# Altium schematic symbol library BGT24LTR22.SchLib: 1 symbol
Pins are listed as number, name and electrical type; pins without a type are passive.

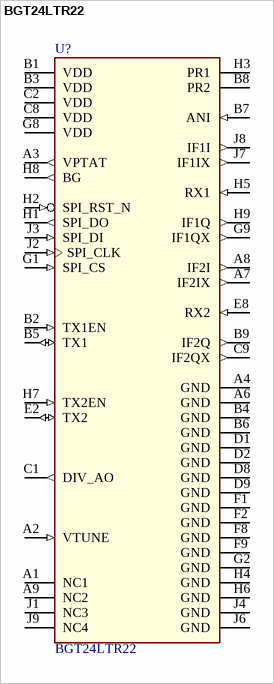
[diagram p0: symbol BGT24LTR22]

## BGT24LTR22
designator U?
Low Power Multichannel 24GHz Radar MMIC; Manufacturer: Infineon Technologies; Manufacturer Order Number: BGT24LTR22; PackageReference: PG-WFWLB-52-3
footprint BGA52C40P9X9_363X363X80-V (BGA,0.40mm pitch,square;52 pin,9 columns X 9 rows,3.63mm X 3.63mm X 0.80mm H)
pins: A1 NC1 "No Connection", A2 VTUNE (in) "VCO Frequency Tuning Input", A3 VPTAT (out) "PTAT Voltage Source Output", A4 GND (power) "Ground", A6 GND (power) "Ground", A7 IF2IX (out) "Complementary in-Phase Downconverter IF Output – Receiver 2", A8 IF2I (out) "Complementary in-Phase Downconverter IF Output – Receiver 2", A9 NC2 "No Connection", B1 VDD (power) "DC Supply Voltage", B2 TX1EN (in) "Enable Transmitter 1", B3 VDD (power) "DC Supply Voltage", B4 GND (power) "Ground", B5 TX1 (io) "Bidirectional RF I/O RF Output – Transmitter 1/LO Input 1", B6 GND (power) "Ground", B7 ANI (in) "Analog Input for Testing", B8 PR2 "Mode Select - Pin 2", B9 IF2Q (out) "Complementary Quadrature Phase Downconverter IF Output - Receiver 2", C1 DIV_AO (out) "Frequency Divider Output", C2 VDD (power) "DC Supply Voltage", C8 VDD (power) "DC Supply Voltage", C9 IF2QX (out) "Complementary Quadrature Phase Downconverter IF Output - Receiver 2", D1 GND (power) "Ground", D2 GND (power) "Ground", D8 GND (power) "Ground", D9 GND (power) "Ground", E2 TX2 (io) "Bidirectional RF I/O RF Output – Transmitter 2/LO Input 2", E8 RX2 (in) "RF Input - Receiver 2", F1 GND (power) "Ground", F2 GND (power) "Ground", F8 GND (power) "Ground", F9 GND (power) "Ground", G1 SPI_CS (in) "SPI Chip Select (spi_cs_i)", G2 GND (power) "Ground", G8 VDD (power) "DC Supply Voltage", G9 IF1QX (out) "Complementary Quadrature Phase Downconverter IF Output - Receiver 1", H1 SPI_DO (out) "SPI Data Out (spi_do_o)", H2 SPI_RST_N (in) "SPI Reset", H3 PR1 "Mode Select – Pin 1", H4 GND (power) "Ground", H5 RX1 (in) "RF Input - Receiver 1", H6 GND (power) "Ground", H7 TX2EN (in) "Enable Transmitter 2", H8 BG (out) "Bandgap Voltage Output", H9 IF1Q (out) "Complementary Quadrature Phase Downconverter IF Output - Receiver 1", J1 NC3 "No Connection", J2 SPI_CLK (in) "SPI Clock (spi_clk_i)", J3 SPI_DI (in) "SPI Data in (spi_di_i)", J4 GND (power) "Ground", J6 GND (power) "Ground", J7 IF1IX (out) "Complementary in Phase Downconverter IF Output – Receiver 1", J8 IF1I (out) "Complementary in Phase Downconverter IF Output – Receiver 1", J9 NC4 "No Connection"